# EAGLE library part MH-Z19 (library mg-z19)
MH-Z19 - CO2 NDIR SENSOR
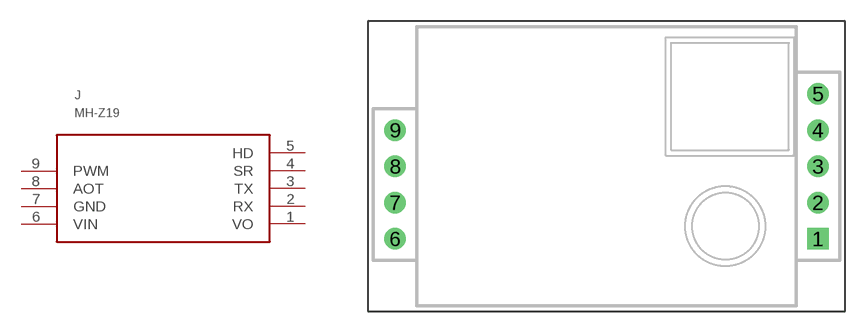
[diagram p0: symbol with the pads of MH-Z19; footprint MH-Z19]

Designator prefix J

## MH-Z19-CO2-NDIR-SENSOR  [MH-Z19]
1  VO  pwr
2  RX  in
3  TX  out
4  SR  nc
5  HD  in
6  VIN  pwr
7  GND  pwr
8  AOT  nc
9  PWM  out

## Footprint MH-Z19 (pad centres in mm)
MH-Z19 CO2 NDIR SENSOR
drill 1 square: 1 29.591,0
drill 1: 2 29.591,2.54; 3 29.591,5.08; 4 29.591,7.62; 5 29.591,10.16; 6 0,0; 7 0,2.54; 8 0,5.08; 9 0,7.62